# Altium footprint library MicroUSB-Molex-105133.PcbLib: 1 footprints
Each footprint in its own frame and in the unit in brackets; x right, y up, seen from the top. Pads: shape width x height; smd on the part's side, far side on the other; paste and mask are expansions set on the pad; w line width, h text height; cw(c..) or ccw(c..) is an arc to the next point about the centre after c.
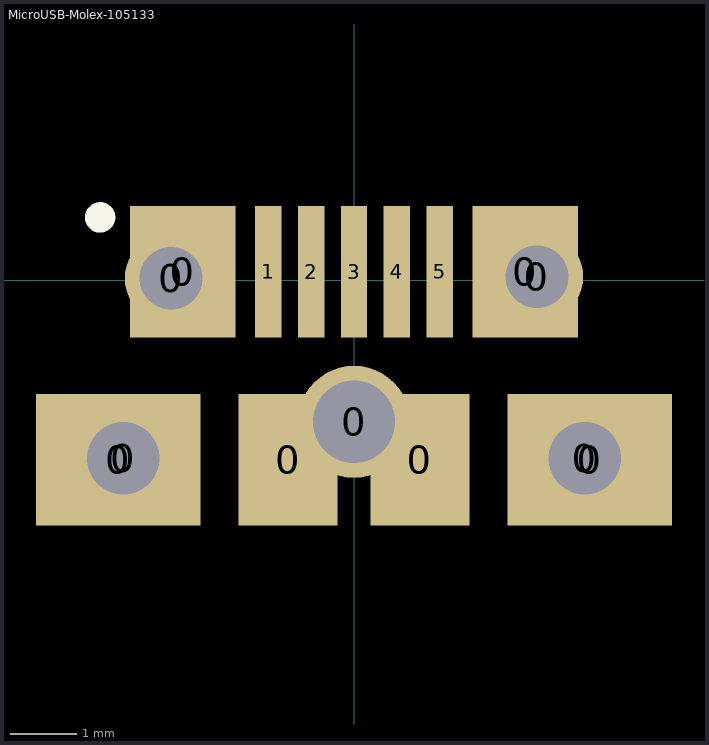
[diagram p0: the footprint, top view; thin cyan lines are the x and y axes]

## MicroUSB-Molex-105133 [mm]
pads (16):
  rect 2.5x2 smd: 0(-3.575,-2.725) 0(3.575,-2.725)
  round 1.7 hole 1.1 mask+0.15: 0(-3.5,-2.7) 0(3.5,-2.7)
  round 1.4 hole 0.95: 0(-2.775,0.025) 0(2.775,0.05)
  rect 1.6x2 smd: 0(-2.6,0.125) 0(2.6,0.125)
  rect 1.5x2 smd: 0(-1,-2.725) 0(1,-2.725)
  round 1.7 hole 1.25 mask+0.15: 0(0,-2.15)
  rect 0.4x2 smd: 1(-1.3,0.125) 2(-0.65,0.125) 3(0,0.125) 4(0.65,0.125) 5(1.3,0.125)
Top Overlay:
  circle w0.254: c-3.85,0.95 r0.103
3D body "MicroUSB-Molex-105133-0011.stp": height 7.53, standoff -2.27, extent -4.025,-3.25 4,1.2